# Altium footprint library Displays.PcbLib: 2 footprints
Each footprint in its own frame and in the unit in brackets; x right, y up, seen from the top. Pads: shape width x height; smd on the part's side, far side on the other; paste and mask are expansions set on the pad; w line width, h text height; cw(c..) or ccw(c..) is an arc to the next point about the centre after c.
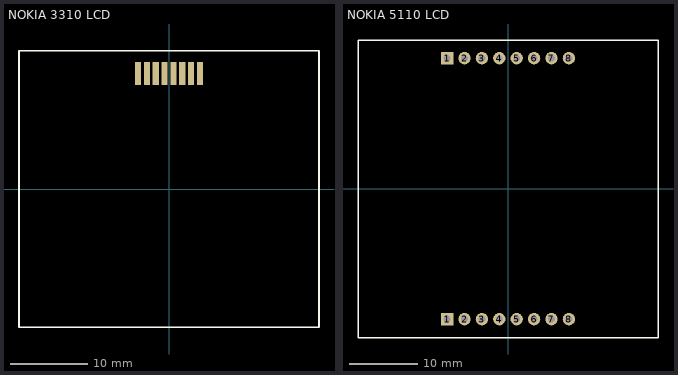
[diagram p0: the footprints below, top view; thin cyan lines are the x and y axes]

## NOKIA 3310 LCD [mm] "NOKIA 3310 LCD"
height 3
pads (8):
  rect 0.8x3 smd: 1(4.025,15) 2(2.875,15) 3(1.725,15) 4(0.575,15) 5(-0.575,15) 6(-1.725,15) 7(-2.875,15) 8(-4.025,15)
Top Overlay:
  lines w0.2: -19.5,-18 -19.5,18 19.5,18 19.5,-18 -19.5,-18
3D body: height 2.06, standoff 0.04, extent -19.25,-17.75 19.25,17.75

## NOKIA 5110 LCD [mm] "NOKIA 5110 LCD"
height 10.254
pads (16):
  rect 1.8x1.8 hole 1: 1(-8.89,-19.05) 1(-8.89,19.05)
  round 1.8 hole 1: 2(-6.35,-19.05) 2(-6.35,19.05) 3(-3.81,-19.05) 3(-3.81,19.05) 4(-1.27,-19.05) 4(-1.27,19.05) 5(1.27,-19.05) 5(1.27,19.05) 6(3.81,-19.05) 6(3.81,19.05) 7(6.35,-19.05) 7(6.35,19.05) 8(8.89,-19.05) 8(8.89,19.05)
Top Overlay:
  lines w0.2: -21.9,-21.8 21.9,-21.8 21.9,21.7 -21.9,21.7 -21.9,-21.8
3D body: height 5.05, standoff 0.05, extent -21.8,-21.65 21.8,21.65